# Altium footprint library IN-S85TATRGB.PcbLib: 1 footprints
Each footprint in its own frame and in the unit in brackets; x right, y up, seen from the top. Pads: shape width x height; smd on the part's side, far side on the other; paste and mask are expansions set on the pad; w line width, h text height; cw(c..) or ccw(c..) is an arc to the next point about the centre after c.
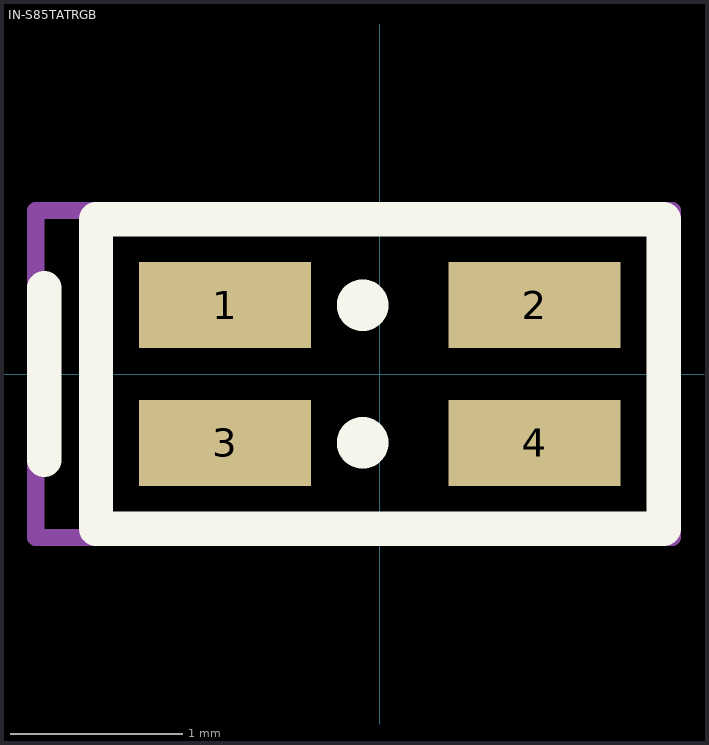
[diagram p0: the footprint, top view; thin cyan lines are the x and y axes]

## IN-S85TATRGB [mm]
pads (4):
  rect 1x0.5 smd: 1(-0.9,0.4) 2(0.9,0.4) 3(-0.9,-0.4) 4(0.9,-0.4)
Top Overlay:
  circle w0.2: c-0.1,-0.4 r0.05
  circle w0.2: c-0.1,0.4 r0.05
  lines w0.2: -1.95,-0.5 -1.95,0.5 ; -1.65,-0.9 -1.65,0.9 1.65,0.9 1.65,-0.9 -1.65,-0.9
Top Courtyard:
  lines w0.1: -2,-0.95 -2,0.95 1.7,0.95 1.7,-0.95 -2,-0.95
3D body "stepFile.stp": height 1.09, standoff -0.01, extent -1,-0.625 1,0.625